# Altium footprint library DMP_PcbLib_SEM_MAIN_BOARD.PcbLib: 39 footprints (part 1 of 3)
Each footprint in its own frame and in the unit in brackets; x right, y up, seen from the top. Pads: shape width x height; smd on the part's side, far side on the other; paste and mask are expansions set on the pad; w line width, h text height; cw(c..) or ccw(c..) is an arc to the next point about the centre after c.
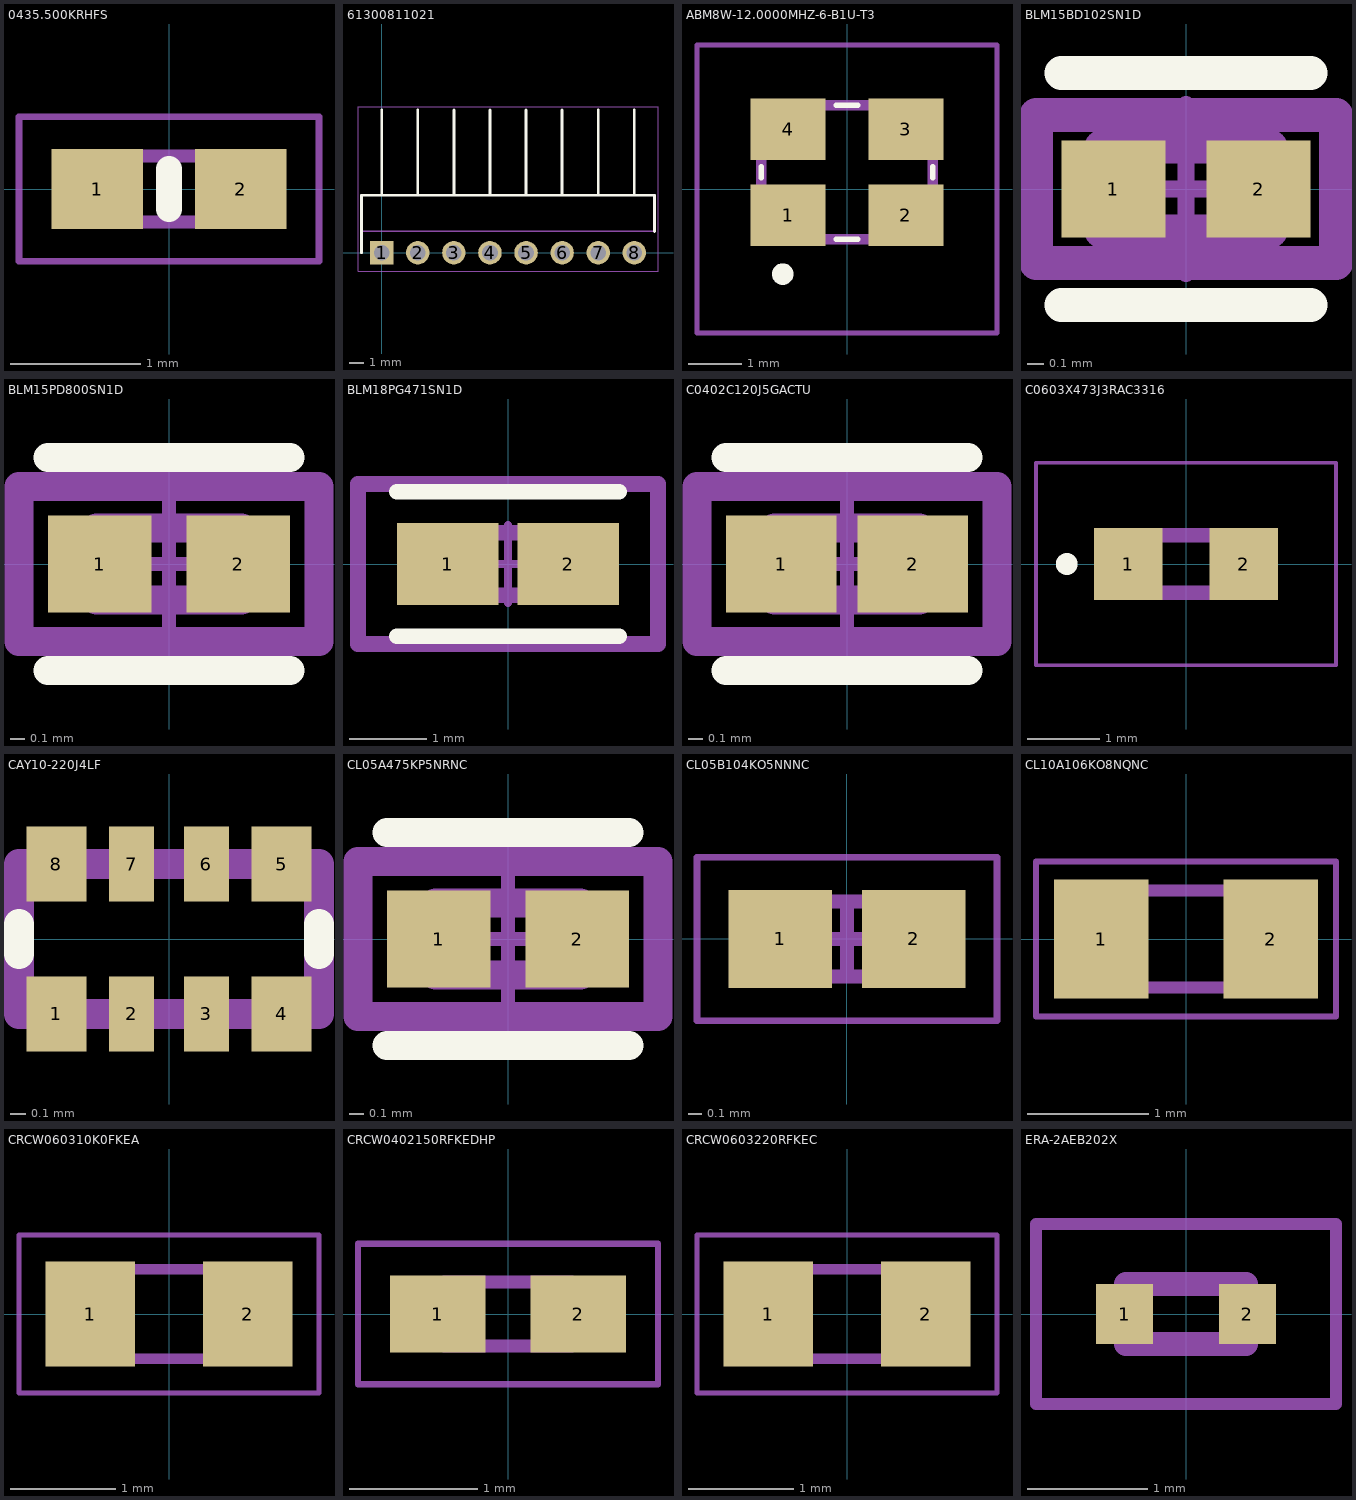
[diagram p0: the footprints below, top view; thin cyan lines are the x and y axes]

## 0435.500KRHFS [mm]
pads (2):
  rect 0.7x0.61 smd: 1(-0.55,0) 2(0.55,0)
Top Overlay:
  lines w0.2: 0,-0.154 0,0.154
Top 3D Body:
  lines w0.1: -0.496,-0.254 -0.496,0.254 0.496,0.254 0.496,-0.254 -0.496,-0.254
Top Courtyard:
  lines w0.05: -1.15,-0.555 -1.15,0.555 1.15,0.555 1.15,-0.555 -1.15,-0.555
3D body "0435.500KRHFS.stp": height 0.43, standoff 0, extent -0.496,-0.254 0.496,0.254

## 61300811021 [mm]
pads (8):
  rect 1.65x1.65 hole 1.1: 1(0,0)
  round 1.65 hole 1.1: 2(2.54,0) 3(5.08,0) 4(7.62,0) 5(10.16,0) 6(12.7,0) 7(15.24,0) 8(17.78,0)
Top Overlay:
  lines w0.2: -1.42,0 -1.42,4.04 19.2,4.04 19.2,1.5 ; 0,4.04 0,10.04 ; 2.54,4.04 2.54,10.04 ; 5.08,4.04 5.08,10.04 ; 7.62,4.04 7.62,10.04 ; 10.16,4.04 10.16,10.04 ; 12.7,4.04 12.7,10.04 ; 15.24,4.04 15.24,10.04 ; 17.78,4.04 17.78,10.04
Top 3D Body:
  lines w0.1: -1.42,1.5 19.2,1.5 19.2,4.04 -1.42,4.04 -1.42,1.5
Top Courtyard:
  lines w0.05: -1.67,-1.325 -1.67,10.29 19.45,10.29 19.45,-1.325 -1.67,-1.325
3D body "61300811021.stp": height 2.54, standoff -3, extent -1.42,-0.32 19.2,10.04

## ABM8W-12.0000MHZ-6-B1U-T3 [mm]
pads (4):
  rect 1.4x1.15 smd: 1(-1.1,-0.488) 2(1.1,-0.488) 3(1.1,1.113) 4(-1.1,1.113)
Top Overlay:
  lines w0.1: -1.6,0.212 -1.6,0.413 ; -0.2,-0.938 0.2,-0.938 ; -0.2,1.562 0.2,1.562 ; 1.6,0.212 1.6,0.413
  lines w0.2: -1.3,-1.588 ccw(c-1.2,-1.588) -1.1,-1.588 ccw(c-1.2,-1.588) -1.3,-1.588
Top 3D Body:
  lines w0.2: -1.6,-0.938 -1.6,1.562 1.6,1.562 1.6,-0.938 -1.6,-0.938
Top Courtyard:
  lines w0.1: -2.8,-2.688 -2.8,2.688 2.8,2.688 2.8,-2.688 -2.8,-2.688
3D body "ABM8W-12.0000MHZ-6-B1U-T3.stp": height 0.75, standoff 0, extent -1.6,-0.94 1.6,1.56

## BLM15BD102SN1D [mm]
pads (2):
  rect 0.615x0.572 smd paste+0 mask+0: 1(-0.429,0) 2(0.429,0)
Top Overlay:
  lines w0.2: -0.736,-0.686 0.736,-0.686 ; -0.736,0.686 0.736,0.686
Top Assembly:
  lines w0.2: -0.886,-0.436 -0.886,0.436 0.886,0.436 0.886,-0.436 -0.886,-0.436
  text ".Designator" at 0,0.187 h1
Top 3D Body:
  lines w0.2: -0.5,-0.25 -0.5,0.25 0.5,0.25 0.5,-0.25 -0.5,-0.25
Top Courtyard:
  lines w0.2: -0.886,-0.436 -0.886,0.436 0.886,0.436 0.886,-0.436 -0.886,-0.436
Top Component Center:
  lines w0.1: -0.5,0 0.5,0 ; 0,-0.5 0,0.5
3D body "FBead_Murata_BLM15PX471SN1B_eec.STEP": height 0.25, standoff 0, extent -0.886,-0.436 0.886,0.436

## BLM15PD800SN1D [mm]
pads (2):
  rect 0.715x0.672 smd paste+0 mask+0: 1(-0.479,0) 2(0.479,0)
Top Overlay:
  lines w0.2: -0.836,-0.736 0.836,-0.736 ; -0.836,0.736 0.836,0.736
Top Assembly:
  lines w0.2: -1.036,-0.536 -1.036,0.536 1.036,0.536 1.036,-0.536 -1.036,-0.536
  text ".Designator" at 0,0.187 h1
Top 3D Body:
  lines w0.2: -0.5,-0.25 -0.5,0.25 0.5,0.25 0.5,-0.25 -0.5,-0.25
Top Courtyard:
  lines w0.2: -1.036,-0.536 -1.036,0.536 1.036,0.536 1.036,-0.536 -1.036,-0.536
Top Component Center:
  lines w0.1: -0.5,0 0.5,0 ; 0,-0.5 0,0.5
3D body "FBead_Murata_BLM15PX471SN1B_eec.STEP": height 0.25, standoff 0, extent -1.036,-0.536 1.036,0.536

## BLM18PG471SN1D [mm]
pads (2):
  rect 1.306x1.058 smd paste+0 mask+0: 1(-0.776,0) 2(0.776,0)
Top Overlay:
  lines w0.2: -1.429,-0.929 1.429,-0.929 ; -1.429,0.929 1.429,0.929
Top Assembly:
  lines w0.2: -1.929,-1.029 -1.929,1.029 1.929,1.029 1.929,-1.029 -1.929,-1.029
  text ".Designator" at 0,0.187 h1
Top 3D Body:
  lines w0.2: -0.8,-0.4 -0.8,0.4 0.8,0.4 0.8,-0.4 -0.8,-0.4
Top Courtyard:
  lines w0.2: -1.929,-1.029 -1.929,1.029 1.929,1.029 1.929,-1.029 -1.929,-1.029
Top Component Center:
  lines w0.1: -0.5,0 0.5,0 ; 0,-0.5 0,0.5
3D body "FBead_Murata_BLM18EG221SN1D_eec.STEP": height 0.25, standoff 0, extent -1.929,-1.029 1.929,1.029

## C0402C120J5GACTU [mm]
pads (2):
  rect 0.765x0.672 smd paste+0 mask+0: 1(-0.454,0) 2(0.454,0)
Top Overlay:
  lines w0.2: -0.836,-0.736 0.836,-0.736 ; -0.836,0.736 0.836,0.736
Top Assembly:
  lines w0.2: -1.036,-0.536 -1.036,0.536 1.036,0.536 1.036,-0.536 -1.036,-0.536
  text ".Designator" at 0,0.187 h1
Top 3D Body:
  lines w0.2: -0.5,-0.25 -0.5,0.25 0.5,0.25 0.5,-0.25 -0.5,-0.25
Top Courtyard:
  lines w0.2: -1.036,-0.536 -1.036,0.536 1.036,0.536 1.036,-0.536 -1.036,-0.536
Top Component Center:
  lines w0.1: -0.5,0 0.5,0 ; 0,-0.5 0,0.5
3D body "Cap_Kemet_C0402C562J5RACTU_eec.STEP": height 0.25, standoff 0, extent -1.036,-0.536 1.036,0.536

## C0603X473J3RAC3316 [mm]
pads (2):
  rect 0.95x1 smd: 1(-0.8,0) 2(0.8,0)
Top Overlay:
  circle w0.2: c-1.65,0 r0.05
Top 3D Body:
  lines w0.2: -0.8,-0.4 -0.8,0.4 0.8,0.4 0.8,-0.4 -0.8,-0.4
Top Courtyard:
  lines w0.05: -2.075,-1.4 -2.075,1.4 2.075,1.4 2.075,-1.4 -2.075,-1.4
3D body "C0603X473J3RAC3316.stp": height 0.87, standoff 0, extent -0.87,-0.48 0.88,0.47

## CAY10-220J4LF [mm]
pads (8):
  rect 0.4x0.5 smd: 1(-0.75,-0.5) 4(0.75,-0.5) 5(0.75,0.5) 8(-0.75,0.5)
  rect 0.3x0.5 smd: 2(-0.25,-0.5) 3(0.25,-0.5) 6(0.25,0.5) 7(-0.25,0.5)
Top Overlay:
  lines w0.2: -1,-0.1 -1,0.1 ; 1,-0.1 1,0.1
Top 3D Body:
  lines w0.2: -1,-0.5 -1,0.5 1,0.5 1,-0.5 -1,-0.5
3D body "CAY10-220J4LF.stp": height 0.34, standoff 0, extent -1,-0.5 1,0.5

## CL05A475KP5NRNC [mm]
pads (2):
  rect 0.715x0.672 smd paste+0 mask+0: 1(-0.479,0) 2(0.479,0)
Top Overlay:
  lines w0.2: -0.836,-0.736 0.836,-0.736 ; -0.836,0.736 0.836,0.736
Top Assembly:
  lines w0.2: -1.036,-0.536 1.036,-0.536 1.036,0.536 -1.036,0.536 -1.036,-0.536
  text ".Designator" at 0,0.187 h1
Top 3D Body:
  lines w0.2: -0.5,-0.25 0.5,-0.25 0.5,0.25 -0.5,0.25 -0.5,-0.25
Top Courtyard:
  lines w0.2: -1.036,-0.536 1.036,-0.536 1.036,0.536 -1.036,0.536 -1.036,-0.536
Top Component Center:
  lines w0.1: -0.5,0 0.5,0 ; 0,-0.5 0,0.5
3D body "Cap_Samsung_CL05A475KP5NRNC_eec.STEP": height 0.25, standoff 0, extent -1.036,-0.536 1.036,0.536

## CL05B104KO5NNNC [mm]
pads (2):
  rect 0.76x0.72 smd: 1(-0.49,0) 2(0.49,0)
Top 3D Body:
  lines w0.1: -0.525,-0.275 0.525,-0.275 0.525,0.275 -0.525,0.275 -0.525,-0.275
Top Courtyard:
  lines w0.05: -1.1,-0.6 1.1,-0.6 1.1,0.6 -1.1,0.6 -1.1,-0.6
  lines w0.1: -0.275,0 0.275,0 ; 0,-0.275 0,0.275
3D body: height 0.55, standoff 0, extent 0.295,-0.275 0.525,0.275
3D body: height 0.55, standoff 0, extent -0.525,-0.275 -0.295,0.275
3D body: height 0.55, standoff 0, extent -0.295,-0.275 0.295,0.275

## CL10A106KO8NQNC [mm]
pads (2):
  rect 0.78x0.98 smd: 1(-0.7,0) 2(0.7,0)
Top 3D Body:
  lines w0.1: -0.8,-0.4 0.8,-0.4 0.8,0.4 -0.8,0.4 -0.8,-0.4
Top Courtyard:
  lines w0.05: -1.24,-0.64 1.24,-0.64 1.24,0.64 -1.24,0.64 -1.24,-0.64
3D body "C0603C104K3RAC.stp": height 0.95, standoff 0, extent -0.8,-0.4 0.8,0.4

## CRCW060310K0FKEA [mm]
pads (2):
  rect 0.85x1 smd: 1(-0.75,0) 2(0.75,0)
Top 3D Body:
  lines w0.1: -0.788,-0.425 0.788,-0.425 0.788,0.425 -0.788,0.425 -0.788,-0.425
Top Courtyard:
  lines w0.05: -1.425,-0.75 1.425,-0.75 1.425,0.75 -1.425,0.75 -1.425,-0.75
3D body "CRCW060310K0FKEA.stp": height 0.35, standoff 0, extent -0.5,-0.25 0.5,0.25

## CRCW0402150RFKEDHP [mm]
pads (2):
  rect 0.75x0.6 smd: 1(-0.55,0) 2(0.55,0)
Top 3D Body:
  lines w0.1: -0.5,-0.25 -0.5,0.25 0.5,0.25 0.5,-0.25 -0.5,-0.25
Top Courtyard:
  lines w0.05: -1.175,-0.55 -1.175,0.55 1.175,0.55 1.175,-0.55 -1.175,-0.55
3D body "RC0402FR-0722RL.stp": height 0.4, standoff 0, extent -0.5,-0.25 0.5,0.25

## CRCW0603220RFKEC [mm]
pads (2):
  rect 0.85x1 smd: 1(-0.75,0) 2(0.75,0)
Top 3D Body:
  lines w0.1: -0.788,-0.425 -0.788,0.425 0.788,0.425 0.788,-0.425 -0.788,-0.425
Top Courtyard:
  lines w0.05: -1.425,-0.75 -1.425,0.75 1.425,0.75 1.425,-0.75 -1.425,-0.75
3D body "CRCW060310K0FKEA.stp": height 0.35, standoff 0, extent -0.5,-0.25 0.5,0.25

## ERA-2AEB202X [mm]
pads (2):
  rect 0.475x0.5 smd: 1(-0.512,0) 2(0.512,0)
Top 3D Body:
  lines w0.2: -0.5,-0.25 -0.5,0.25 0.5,0.25 0.5,-0.25 -0.5,-0.25
Top Courtyard:
  lines w0.1: -1.25,-0.75 -1.25,0.75 1.25,0.75 1.25,-0.75 -1.25,-0.75
3D body "ERA-2AEB202X.stp": height 0.35, standoff 0, extent -0.5,-0.25 0.5,0.25